# Altium integrated library Wuerth Elektronik Filter Inductor.IntLib: 70 symbols
Pins are listed as number, name and electrical type; pins without a type are passive.

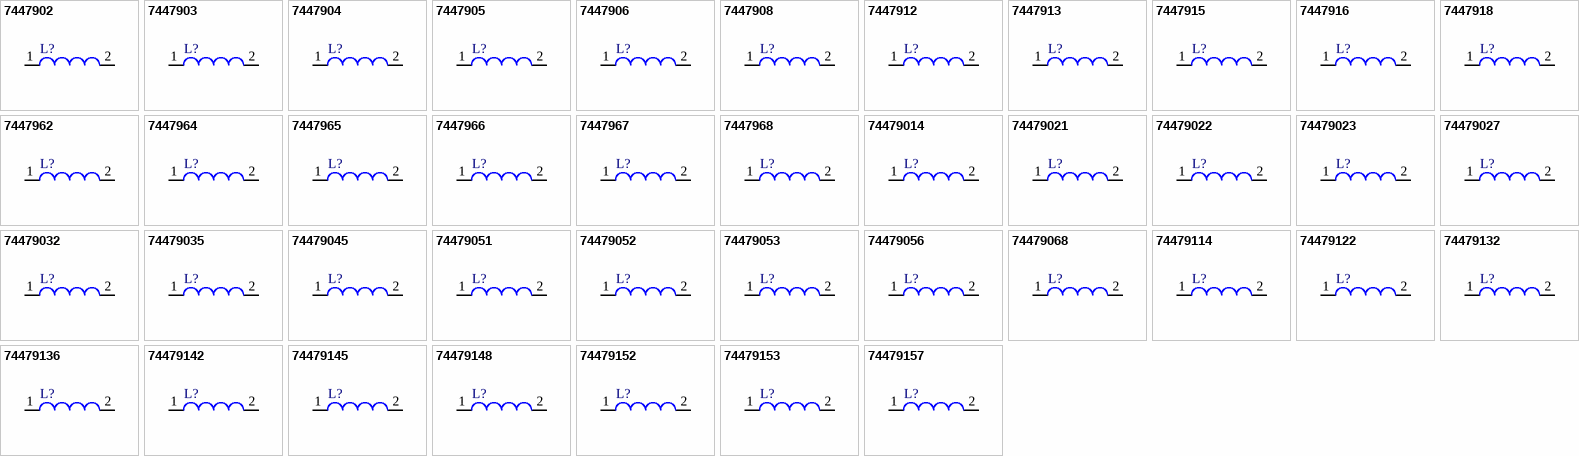
[diagram p0: symbols 7447902 to 74479157]

## 7447902
designator L?
SMD-Multilayer Inductor WE-MI, L = 0.10 µH; Inductance: 0.10 µH; DatasheetVersion: ver 4, Oct-2004; PackageVersion: 2005; PackageReference: SMD-0805; PackageDescription: Chip Inductor, 2-Leads, Body 2.0 x 1.2 mm; ComponentLink1Description: Manufacturer URL; ComponentLink1URL: http://www.we-online.com; ComponentLink2Description: Datasheet; ComponentLink2URL: http://www.we-online.de/katalog/media/pdf/7447902.pdf
footprint SMD-0805 (Chip Inductor, 2-Leads, Body 2.0x1.2x1.1 mm)
pins: 1, 2

## 7447903
designator L?
SMD-Multilayer Inductor WE-MI, L = 0.33 µH; Inductance: 0.33 µH; DatasheetVersion: ver 4, Oct-2004; PackageVersion: 2005; PackageReference: SMD-0805; PackageDescription: Chip Inductor, 2-Leads, Body 2.0 x 1.2 mm; ComponentLink1Description: Manufacturer URL; ComponentLink1URL: http://www.we-online.com; ComponentLink2Description: Datasheet; ComponentLink2URL: http://www.we-online.de/katalog/media/pdf/7447903.pdf
footprint SMD-0805 (Chip Inductor, 2-Leads, Body 2.0x1.2x1.1 mm)
pins: 1, 2

## 7447904
designator L?
SMD-Multilayer Inductor WE-MI, L = 0.68 µH; Inductance: 0.68 µH; DatasheetVersion: ver 5, Jun-2008; PackageVersion: 2005; PackageReference: SMD-0805; PackageDescription: Chip Inductor, 2-Leads, Body 2.0 x 1.2 mm; ComponentLink1Description: Manufacturer URL; ComponentLink1URL: http://www.we-online.com; ComponentLink2Description: Datasheet; ComponentLink2URL: http://www.we-online.de/katalog/media/pdf/7447904.pdf
footprint SMD-0805 (Chip Inductor, 2-Leads, Body 2.0x1.2x1.1 mm)
pins: 1, 2

## 7447905
designator L?
SMD-Multilayer Inductor WE-MI, L = 1.00 µH; Inductance: 1.00 µH; DatasheetVersion: ver 4, Oct-2004; PackageVersion: 2005; PackageReference: SMD-0805; PackageDescription: Chip Inductor, 2-Leads, Body 2.0 x 1.2 mm; ComponentLink1Description: Manufacturer URL; ComponentLink1URL: http://www.we-online.com; ComponentLink2Description: Datasheet; ComponentLink2URL: http://www.we-online.de/katalog/media/pdf/7447905.pdf
footprint SMD-0805 (Chip Inductor, 2-Leads, Body 2.0x1.2x1.1 mm)
pins: 1, 2

## 7447906
designator L?
SMD-Multilayer Inductor WE-MI, L = 4.70 µH; Inductance: 4.70 µH; DatasheetVersion: ver 4, Oct-2004; PackageVersion: 2005; PackageReference: SMD-0805; PackageDescription: Chip Inductor, 2-Leads, Body 2.0 x 1.2 mm; ComponentLink1Description: Manufacturer URL; ComponentLink1URL: http://www.we-online.com; ComponentLink2Description: Datasheet; ComponentLink2URL: http://www.we-online.de/katalog/media/pdf/7447906.pdf
footprint SMD-0805 (Chip Inductor, 2-Leads, Body 2.0x1.2x1.1 mm)
pins: 1, 2

## 7447908
designator L?
SMD-Multilayer Inductor WE-MI, L = 10.00 µH; DatasheetVersion: ver 4, Oct-2004; PackageVersion: 2005; PackageReference: SMD-0805; PackageDescription: Chip Inductor, 2-Leads, Body 2.0 x 1.2 mm; Inductance: 10.00 µH; ComponentLink1Description: Manufacturer URL; ComponentLink1URL: http://www.we-online.com; ComponentLink2Description: Datasheet; ComponentLink2URL: http://www.we-online.de/katalog/media/pdf/7447908.pdf
footprint SMD-0805 (Chip Inductor, 2-Leads, Body 2.0x1.2x1.1 mm)
pins: 1, 2

## 7447912
designator L?
SMD-Multilayer Inductor WE-MI, L = 0.10 µH; Inductance: 0.10 µH; DatasheetVersion: ver 5, Oct-2004; PackageVersion: 2007; PackageReference: SMD-1210; PackageDescription: Chip Inductor, 2-Leads, Body 3.2 x 2.5 mm; ComponentLink1Description: Manufacturer URL; ComponentLink1URL: http://www.we-online.com; ComponentLink2Description: Datasheet; ComponentLink2URL: http://www.we-online.de/katalog/media/pdf/7447912.pdf
footprint SMD-1210 (Chip Inductor, 2-Leads, Body 3.2x2.5x1.5 mm)
pins: 1, 2

## 7447913
designator L?
SMD-Multilayer Inductor WE-MI, L = 0.33 µH; Inductance: 0.33 µH; DatasheetVersion: ver 5, Oct-2004; PackageVersion: 2007; PackageReference: SMD-1210; PackageDescription: Chip Inductor, 2-Leads, Body 3.2 x 2.5 mm; ComponentLink1Description: Manufacturer URL; ComponentLink1URL: http://www.we-online.com; ComponentLink2Description: Datasheet; ComponentLink2URL: http://www.we-online.de/katalog/media/pdf/7447913.pdf
footprint SMD-1210 (Chip Inductor, 2-Leads, Body 3.2x2.5x1.5 mm)
pins: 1, 2

## 7447915
designator L?
SMD-Multilayer Inductor WE-MI, L = 1.00 µH; Inductance: 1.00 µH; DatasheetVersion: ver 5, Oct-2004; PackageVersion: 2007; PackageReference: SMD-1210; PackageDescription: Chip Inductor, 2-Leads, Body 3.2 x 2.5 mm; ComponentLink1Description: Manufacturer URL; ComponentLink1URL: http://www.we-online.com; ComponentLink2Description: Datasheet; ComponentLink2URL: http://www.we-online.de/katalog/media/pdf/7447915.pdf
footprint SMD-1210 (Chip Inductor, 2-Leads, Body 3.2x2.5x1.5 mm)
pins: 1, 2

## 7447916
designator L?
SMD-Multilayer Inductor WE-MI, L = 4.70 µH; Inductance: 4.70 µH; DatasheetVersion: ver 5, Oct-2004; PackageVersion: 2007; PackageReference: SMD-1210; PackageDescription: Chip Inductor, 2-Leads, Body 3.2 x 2.5 mm; ComponentLink1Description: Manufacturer URL; ComponentLink1URL: http://www.we-online.com; ComponentLink2Description: Datasheet; ComponentLink2URL: http://www.we-online.de/katalog/media/pdf/7447916.pdf
footprint SMD-1210 (Chip Inductor, 2-Leads, Body 3.2x2.5x1.5 mm)
pins: 1, 2

## 7447918
designator L?
SMD-Multilayer Inductor WE-MI, L = 10.00 µH; DatasheetVersion: ver 5, Oct-2004; PackageVersion: 2007; PackageReference: SMD-1210; PackageDescription: Chip Inductor, 2-Leads, Body 3.2 x 2.5 mm; Inductance: 10.00 µH; ComponentLink1Description: Manufacturer URL; ComponentLink1URL: http://www.we-online.com; ComponentLink2Description: Datasheet; ComponentLink2URL: http://www.we-online.de/katalog/media/pdf/7447918.pdf
footprint SMD-1210 (Chip Inductor, 2-Leads, Body 3.2x2.5x1.5 mm)
pins: 1, 2

## 7447962
designator L?
SMD-Multilayer Inductor WE-MI, L = 0.10µH; DatasheetVersion: ver 5, Oct-2004; PackageVersion: 2009; PackageReference: SMD-0603; PackageDescription: Chip Inductor, 2-Leads, Body 1.6 x 0.8 mm; Inductance: 0.10 µH; ComponentLink1Description: Manufacturer URL; ComponentLink1URL: http://www.we-online.com; ComponentLink2Description: Datasheet; ComponentLink2URL: http://www.we-online.de/katalog/media/pdf/7447962.pdf
footprint SMD-0603 (Chip Inductor, 2-Leads, Body 1.6x0.8x0.95 mm)
pins: 1, 2

## 7447964
designator L?
SMD-Multilayer Inductor WE-MI, L = 0.68 µH; Inductance: 0.68 µH; DatasheetVersion: ver 1, Mar-2009; PackageVersion: 2009; PackageReference: SMD-0603; PackageDescription: Chip Inductor, 2-Leads, Body 1.6 x 0.8 mm; ComponentLink1Description: Manufacturer URL; ComponentLink1URL: http://www.we-online.com; ComponentLink2Description: Datasheet; ComponentLink2URL: http://www.we-online.de/katalog/media/pdf/7447964.pdf
footprint SMD-0603 (Chip Inductor, 2-Leads, Body 1.6x0.8x0.95 mm)
pins: 1, 2

## 7447965
designator L?
SMD-Multilayer Inductor WE-MI, L = 1.00 µH; Inductance: 1.00 µH; DatasheetVersion: ver 5, Oct-2004; PackageVersion: 2009; PackageReference: SMD-0603; PackageDescription: Chip Inductor, 2-Leads, Body 1.6 x 0.8 mm; ComponentLink1Description: Manufacturer URL; ComponentLink1URL: http://www.we-online.com; ComponentLink2Description: Datasheet; ComponentLink2URL: http://www.we-online.de/katalog/media/pdf/7447965.pdf
footprint SMD-0603 (Chip Inductor, 2-Leads, Body 1.6x0.8x0.95 mm)
pins: 1, 2

## 7447966
designator L?
SMD-Multilayer Inductor WE-MI, L = 4.70 µH; Inductance: 4.70 µH; DatasheetVersion: ver 5, Oct-2004; PackageVersion: 2009; PackageReference: SMD-0603; PackageDescription: Chip Inductor, 2-Leads, Body 1.6 x 0.8 mm; ComponentLink1Description: Manufacturer URL; ComponentLink1URL: http://www.we-online.com; ComponentLink2Description: Datasheet; ComponentLink2URL: http://www.we-online.de/katalog/media/pdf/7447966.pdf
footprint SMD-0603 (Chip Inductor, 2-Leads, Body 1.6x0.8x0.95 mm)
pins: 1, 2

## 7447967
designator L?
SMD-Multilayer Inductor WE-MI, L = 8.20 µH; Inductance: 8.20 µH; DatasheetVersion: ver 5, Oct-2004; PackageVersion: 2009; PackageReference: SMD-0603; PackageDescription: Chip Inductor, 2-Leads, Body 1.6 x 0.8 mm; ComponentLink1Description: Manufacturer URL; ComponentLink1URL: http://www.we-online.com; ComponentLink2Description: Datasheet; ComponentLink2URL: http://www.we-online.de/katalog/media/pdf/7447967.pdf
footprint SMD-0603 (Chip Inductor, 2-Leads, Body 1.6x0.8x0.95 mm)
pins: 1, 2

## 7447968
designator L?
SMD-Multilayer Inductor WE-MI, L = 10.00 µH; DatasheetVersion: ver 5, Oct-2004; PackageVersion: 2009; PackageReference: SMD-0603; PackageDescription: Chip Inductor, 2-Leads, Body 1.6 x 0.8 mm; Inductance: 10.00 µH; ComponentLink1Description: Manufacturer URL; ComponentLink1URL: http://www.we-online.com; ComponentLink2Description: Datasheet; ComponentLink2URL: http://www.we-online.de/katalog/media/pdf/7447968.pdf
footprint SMD-0603 (Chip Inductor, 2-Leads, Body 1.6x0.8x0.95 mm)
pins: 1, 2

## 74479014
designator L?
SMD-Multilayer Inductor WE-MI, L = 0.047 µH; DatasheetVersion: ver 4, Oct-2004; PackageVersion: 2005; PackageReference: SMD-0805; PackageDescription: Chip Inductor, 2-Leads, Body 2.0 x 1.2 mm; Inductance: 0.047 µH; ComponentLink1Description: Manufacturer URL; ComponentLink1URL: http://www.we-online.com; ComponentLink2Description: Datasheet; ComponentLink2URL: http://www.we-online.de/katalog/media/pdf/74479014.pdf
footprint SMD-0805 (Chip Inductor, 2-Leads, Body 2.0x1.2x1.1 mm)
pins: 1, 2

## 74479021
designator L?
SMD-Multilayer Inductor WE-MI, L = 0.10 µH; Inductance: 0.10 µH; DatasheetVersion: ver 4, Oct-2004; PackageVersion: 2005; PackageReference: SMD-0805; PackageDescription: Chip Inductor, 2-Leads, Body 2.0 x 1.2 mm; ComponentLink1Description: Manufacturer URL; ComponentLink1URL: http://www.we-online.com; ComponentLink2Description: Datasheet; ComponentLink2URL: http://www.we-online.de/katalog/media/pdf/74479021.pdf
footprint SMD-0805 (Chip Inductor, 2-Leads, Body 2.0x1.2x1.1 mm)
pins: 1, 2

## 74479022
designator L?
SMD-Multilayer Inductor WE-MI, L = 0.15 µH; Inductance: 0.15 µH; DatasheetVersion: ver 4, Oct-2004; PackageVersion: 2005; PackageReference: SMD-0805; PackageDescription: Chip Inductor, 2-Leads, Body 2.0 x 1.2 mm; ComponentLink1Description: Manufacturer URL; ComponentLink1URL: http://www.we-online.com; ComponentLink2Description: Datasheet; ComponentLink2URL: http://www.we-online.de/katalog/media/pdf/74479022.pdf
footprint SMD-0805 (Chip Inductor, 2-Leads, Body 2.0x1.2x1.1 mm)
pins: 1, 2

## 74479023
designator L?
SMD-Multilayer Inductor WE-MI, L = 0.22 µH; Inductance: 0.22 µH; DatasheetVersion: ver 4, Oct-2004; PackageVersion: 2005; PackageReference: SMD-0805; PackageDescription: Chip Inductor, 2-Leads, Body 2.0 x 1.2 mm; ComponentLink1Description: Manufacturer URL; ComponentLink1URL: http://www.we-online.com; ComponentLink2Description: Datasheet; ComponentLink2URL: http://www.we-online.de/katalog/media/pdf/74479023.pdf
footprint SMD-0805 (Chip Inductor, 2-Leads, Body 2.0x1.2x1.1 mm)
pins: 1, 2

## 74479027
designator L?
SMD-Multilayer Inductor WE-MI, L = 0.27 µH; Inductance: 0.27 µH; DatasheetVersion: ver 4, Oct-2004; PackageVersion: 2005; PackageReference: SMD-0805; PackageDescription: Chip Inductor, 2-Leads, Body 2.0 x 1.2 mm; ComponentLink1Description: Manufacturer URL; ComponentLink1URL: http://www.we-online.com; ComponentLink2Description: Datasheet; ComponentLink2URL: http://www.we-online.de/katalog/media/pdf/74479027.pdf
footprint SMD-0805 (Chip Inductor, 2-Leads, Body 2.0x1.2x1.1 mm)
pins: 1, 2

## 74479032
designator L?
SMD-Multilayer Inductor WE-MI, L = 0.47 µH; Inductance: 0.47 µH; DatasheetVersion: ver 4, Oct-2004; PackageVersion: 2005; PackageReference: SMD-0805; PackageDescription: Chip Inductor, 2-Leads, Body 2.0 x 1.2 mm; ComponentLink1Description: Manufacturer URL; ComponentLink1URL: http://www.we-online.com; ComponentLink2Description: Datasheet; ComponentLink2URL: http://www.we-online.de/katalog/media/pdf/74479032.pdf
footprint SMD-0805 (Chip Inductor, 2-Leads, Body 2.0x1.2x1.1 mm)
pins: 1, 2

## 74479035
designator L?
SMD-Multilayer Inductor WE-MI, L = 0.56 µH; Inductance: 0.56 µH; DatasheetVersion: ver 1, Nov-2006; PackageVersion: 2005; PackageReference: SMD-0805; PackageDescription: Chip Inductor, 2-Leads, Body 2.0 x 1.2 mm; ComponentLink1Description: Manufacturer URL; ComponentLink1URL: http://www.we-online.com; ComponentLink2Description: Datasheet; ComponentLink2URL: http://www.we-online.de/katalog/media/pdf/74479035.pdf
footprint SMD-0805 (Chip Inductor, 2-Leads, Body 2.0x1.2x1.1 mm)
pins: 1, 2

## 74479045
designator L?
SMD-Multilayer Inductor WE-MI, L = 0.82 µH; Inductance: 0.82 µH; DatasheetVersion: ver 5, Jun-2008; PackageVersion: 2005; PackageReference: SMD-0805; PackageDescription: Chip Inductor, 2-Leads, Body 2.0 x 1.2 mm; ComponentLink1Description: Manufacturer URL; ComponentLink1URL: http://www.we-online.com; ComponentLink2Description: Datasheet; ComponentLink2URL: http://www.we-online.de/katalog/media/pdf/74479045.pdf
footprint SMD-0805 (Chip Inductor, 2-Leads, Body 2.0x1.2x1.1 mm)
pins: 1, 2

## 74479051
designator L?
SMD-Multilayer Inductor WE-MI, L = 1.80 µH; Inductance: 1.80 µH; DatasheetVersion: ver 4, Oct-2004; PackageVersion: 2005; PackageReference: SMD-0805; PackageDescription: Chip Inductor, 2-Leads, Body 2.0 x 1.2 mm; ComponentLink1Description: Manufacturer URL; ComponentLink1URL: http://www.we-online.com; ComponentLink2Description: Datasheet; ComponentLink2URL: http://www.we-online.de/katalog/media/pdf/74479051.pdf
footprint SMD-0805 (Chip Inductor, 2-Leads, Body 2.0x1.2x1.1 mm)
pins: 1, 2

## 74479052
designator L?
SMD-Multilayer Inductor WE-MI, L = 2.20 µH; Inductance: 2.20 µH; DatasheetVersion: ver 4, Oct-2004; PackageVersion: 2005; PackageReference: SMD-0805; PackageDescription: Chip Inductor, 2-Leads, Body 2.0 x 1.2 mm; ComponentLink1Description: Manufacturer URL; ComponentLink1URL: http://www.we-online.com; ComponentLink2Description: Datasheet; ComponentLink2URL: http://www.we-online.de/katalog/media/pdf/74479052.pdf
footprint SMD-0805 (Chip Inductor, 2-Leads, Body 2.0x1.2x1.1 mm)
pins: 1, 2

## 74479053
designator L?
SMD-Multilayer Inductor WE-MI, L = 3.30 µH; Inductance: 3.30 µH; DatasheetVersion: ver 4, Oct-2004; PackageVersion: 2005; PackageReference: SMD-0805; PackageDescription: Chip Inductor, 2-Leads, Body 2.0 x 1.2 mm; ComponentLink1Description: Manufacturer URL; ComponentLink1URL: http://www.we-online.com; ComponentLink2Description: Datasheet; ComponentLink2URL: http://www.we-online.de/katalog/media/pdf/74479053.pdf
footprint SMD-0805 (Chip Inductor, 2-Leads, Body 2.0x1.2x1.1 mm)
pins: 1, 2

## 74479056
designator L?
SMD-Multilayer Inductor WE-MI, L = 5.60 µH; Inductance: 5.60 µH; DatasheetVersion: ver 4, Oct-2004; PackageVersion: 2005; PackageReference: SMD-0805; PackageDescription: Chip Inductor, 2-Leads, Body 2.0 x 1.2 mm; ComponentLink1Description: Manufacturer URL; ComponentLink1URL: http://www.we-online.com; ComponentLink2Description: Datasheet; ComponentLink2URL: http://www.we-online.de/katalog/media/pdf/74479056.pdf
footprint SMD-0805 (Chip Inductor, 2-Leads, Body 2.0x1.2x1.1 mm)
pins: 1, 2

## 74479068
designator L?
SMD-Multilayer Inductor WE-MI, L = 6.80 µH; Inductance: 6.80 µH; DatasheetVersion: ver 4, Oct-2004; PackageVersion: 2005; PackageReference: SMD-0805; PackageDescription: Chip Inductor, 2-Leads, Body 2.0 x 1.2 mm; ComponentLink1Description: Manufacturer URL; ComponentLink1URL: http://www.we-online.com; ComponentLink2Description: Datasheet; ComponentLink2URL: http://www.we-online.de/katalog/media/pdf/74479068.pdf
footprint SMD-0805 (Chip Inductor, 2-Leads, Body 2.0x1.2x1.1 mm)
pins: 1, 2

## 74479114
designator L?
SMD-Multilayer Inductor WE-MI, L = 0.047 µH; DatasheetVersion: ver 5, Oct-2004; PackageVersion: 2007; PackageReference: SMD-1210; PackageDescription: Chip Inductor, 2-Leads, Body 3.2 x 2.5 mm; Inductance: 0.047 µH; ComponentLink1Description: Manufacturer URL; ComponentLink1URL: http://www.we-online.com; ComponentLink2Description: Datasheet; ComponentLink2URL: http://www.we-online.de/katalog/media/pdf/74479114.pdf
footprint SMD-1210 (Chip Inductor, 2-Leads, Body 3.2x2.5x1.5 mm)
pins: 1, 2

## 74479122
designator L?
SMD-Multilayer Inductor WE-MI, L = 0.15 µH; Inductance: 0.15 µH; DatasheetVersion: ver 5, Oct-2004; PackageVersion: 2007; PackageReference: SMD-1210; PackageDescription: Chip Inductor, 2-Leads, Body 3.2 x 2.5 mm; ComponentLink1Description: Manufacturer URL; ComponentLink1URL: http://www.we-online.com; ComponentLink2Description: Datasheet; ComponentLink2URL: http://www.we-online.de/katalog/media/pdf/74479122.pdf
footprint SMD-1210 (Chip Inductor, 2-Leads, Body 3.2x2.5x1.5 mm)
pins: 1, 2

## 74479132
designator L?
SMD-Multilayer Inductor WE-MI, L = 0.47 µH; Inductance: 0.47 µH; DatasheetVersion: ver 5, Oct-2004; PackageVersion: 2007; PackageReference: SMD-1210; PackageDescription: Chip Inductor, 2-Leads, Body 3.2 x 2.5 mm; ComponentLink1Description: Manufacturer URL; ComponentLink1URL: http://www.we-online.com; ComponentLink2Description: Datasheet; ComponentLink2URL: http://www.we-online.de/katalog/media/pdf/74479132.pdf
footprint SMD-1210 (Chip Inductor, 2-Leads, Body 3.2x2.5x1.5 mm)
pins: 1, 2

## 74479136
designator L?
SMD-Multilayer Inductor WE-MI, L = 0.68 µH; Inductance: 0.68 µH; DatasheetVersion: ver 5, Oct-2004; PackageVersion: 2007; PackageReference: SMD-1210; PackageDescription: Chip Inductor, 2-Leads, Body 3.2 x 2.5 mm; ComponentLink1Description: Manufacturer URL; ComponentLink1URL: http://www.we-online.com; ComponentLink2Description: Datasheet; ComponentLink2URL: http://www.we-online.de/katalog/media/pdf/74479136.pdf
footprint SMD-1210 (Chip Inductor, 2-Leads, Body 3.2x2.5x1.5 mm)
pins: 1, 2

## 74479142
designator L?
SMD-Multilayer Inductor WE-MI, L = 1.20 µH; Inductance: 1.20 µH; DatasheetVersion: ver 5, Oct-2004; PackageVersion: 2007; PackageReference: SMD-1210; PackageDescription: Chip Inductor, 2-Leads, Body 3.2 x 2.5 mm; ComponentLink1Description: Manufacturer URL; ComponentLink1URL: http://www.we-online.com; ComponentLink2Description: Datasheet; ComponentLink2URL: http://www.we-online.de/katalog/media/pdf/74479142.pdf
footprint SMD-1210 (Chip Inductor, 2-Leads, Body 3.2x2.5x1.5 mm)
pins: 1, 2

## 74479145
designator L?
SMD-Multilayer Inductor WE-MI, L = 1.50 µH; Inductance: 1.50 µH; DatasheetVersion: ver 5, Oct-2004; PackageVersion: 2007; PackageReference: SMD-1210; PackageDescription: Chip Inductor, 2-Leads, Body 3.2 x 2.5 mm; ComponentLink1Description: Manufacturer URL; ComponentLink1URL: http://www.we-online.com; ComponentLink2Description: Datasheet; ComponentLink2URL: http://www.we-online.de/katalog/media/pdf/74479145.pdf
footprint SMD-1210 (Chip Inductor, 2-Leads, Body 3.2x2.5x1.5 mm)
pins: 1, 2

## 74479148
designator L?
SMD-Multilayer Inductor WE-MI, L = 1.80 µH; Inductance: 1.80 µH; DatasheetVersion: ver 5, Oct-2004; PackageVersion: 2007; PackageReference: SMD-1210; PackageDescription: Chip Inductor, 2-Leads, Body 3.2 x 2.5 mm; ComponentLink1Description: Manufacturer URL; ComponentLink1URL: http://www.we-online.com; ComponentLink2Description: Datasheet; ComponentLink2URL: http://www.we-online.de/katalog/media/pdf/74479148.pdf
footprint SMD-1210 (Chip Inductor, 2-Leads, Body 3.2x2.5x1.5 mm)
pins: 1, 2

## 74479152
designator L?
SMD-Multilayer Inductor WE-MI, L = 2.20 µH; Inductance: 2.20 µH; DatasheetVersion: ver 5, Oct-2004; PackageVersion: 2007; PackageReference: SMD-1210; PackageDescription: Chip Inductor, 2-Leads, Body 3.2 x 2.5 mm; ComponentLink1Description: Manufacturer URL; ComponentLink1URL: http://www.we-online.com; ComponentLink2Description: Datasheet; ComponentLink2URL: http://www.we-online.de/katalog/media/pdf/74479152.pdf
footprint SMD-1210 (Chip Inductor, 2-Leads, Body 3.2x2.5x1.5 mm)
pins: 1, 2

## 74479153
designator L?
SMD-Multilayer Inductor WE-MI, L = 3.30 µH; Inductance: 3.30 µH; DatasheetVersion: ver 5, Oct-2004; PackageVersion: 2007; PackageReference: SMD-1210; PackageDescription: Chip Inductor, 2-Leads, Body 3.2 x 2.5 mm; ComponentLink1Description: Manufacturer URL; ComponentLink1URL: http://www.we-online.com; ComponentLink2Description: Datasheet; ComponentLink2URL: http://www.we-online.de/katalog/media/pdf/74479153.pdf
footprint SMD-1210 (Chip Inductor, 2-Leads, Body 3.2x2.5x1.5 mm)
pins: 1, 2

## 74479157
designator L?
SMD-Multilayer Inductor WE-MI, L = 2.70 µH; Inductance: 2.70 µH; DatasheetVersion: ver 5, Oct-2004; PackageVersion: 2007; PackageReference: SMD-1210; PackageDescription: Chip Inductor, 2-Leads, Body 3.2 x 2.5 mm; ComponentLink1Description: Manufacturer URL; ComponentLink1URL: http://www.we-online.com; ComponentLink2Description: Datasheet; ComponentLink2URL: http://www.we-online.de/katalog/media/pdf/74479157.pdf
footprint SMD-1210 (Chip Inductor, 2-Leads, Body 3.2x2.5x1.5 mm)
pins: 1, 2

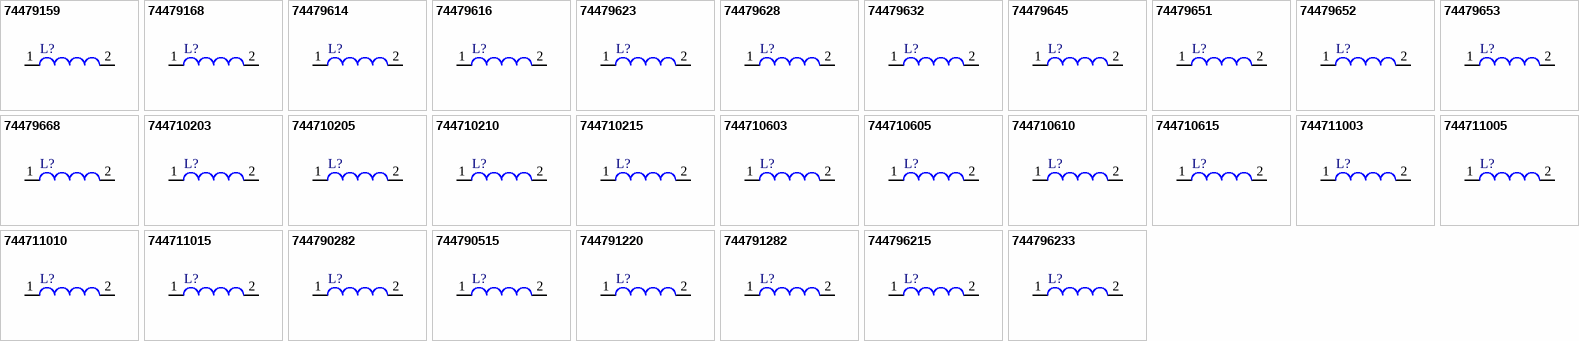
[diagram p1: symbols 74479159 to 744796233]

## 74479159
designator L?
SMD-Multilayer Inductor WE-MI, L = 3.90 µH; Inductance: 3.90 µH; DatasheetVersion: ver 5, Oct-2004; PackageVersion: 2007; PackageReference: SMD-1210; PackageDescription: Chip Inductor, 2-Leads, Body 3.2 x 2.5 mm; ComponentLink1Description: Manufacturer URL; ComponentLink1URL: http://www.we-online.com; ComponentLink2Description: Datasheet; ComponentLink2URL: http://www.we-online.de/katalog/media/pdf/74479159.pdf
footprint SMD-1210 (Chip Inductor, 2-Leads, Body 3.2x2.5x1.5 mm)
pins: 1, 2

## 74479168
designator L?
SMD-Multilayer Inductor WE-MI, L = 6.80 µH; Inductance: 6.80 µH; DatasheetVersion: ver 5, Oct-2004; PackageVersion: 2007; PackageReference: SMD-1210; PackageDescription: Chip Inductor, 2-Leads, Body 3.2 x 2.5 mm; ComponentLink1Description: Manufacturer URL; ComponentLink1URL: http://www.we-online.com; ComponentLink2Description: Datasheet; ComponentLink2URL: http://www.we-online.de/katalog/media/pdf/74479168.pdf
footprint SMD-1210 (Chip Inductor, 2-Leads, Body 3.2x2.5x1.5 mm)
pins: 1, 2

## 74479614
designator L?
SMD-Multilayer Inductor WE-MI, L = 0.047 µH; DatasheetVersion: ver 5, Oct-2004; PackageVersion: 2009; PackageReference: SMD-0603; PackageDescription: Chip Inductor, 2-Leads, Body 1.6 x 0.8 mm; Inductance: 0.047 µH; ComponentLink1Description: Manufacturer URL; ComponentLink1URL: http://www.we-online.com; ComponentLink2Description: Datasheet; ComponentLink2URL: http://www.we-online.de/katalog/media/pdf/74479614.pdf
footprint SMD-0603 (Chip Inductor, 2-Leads, Body 1.6x0.8x0.95 mm)
pins: 1, 2

## 74479616
designator L?
SMD-Multilayer Inductor WE-MI, L = 0.068 µH; DatasheetVersion: ver 5, Oct-2004; PackageVersion: 2009; PackageReference: SMD-0603; PackageDescription: Chip Inductor, 2-Leads, Body 1.6 x 0.8 mm; Inductance: 0.068 µH; ComponentLink1Description: Manufacturer URL; ComponentLink1URL: http://www.we-online.com; ComponentLink2Description: Datasheet; ComponentLink2URL: http://www.we-online.de/katalog/media/pdf/74479616.pdf
footprint SMD-0603 (Chip Inductor, 2-Leads, Body 1.6x0.8x0.95 mm)
pins: 1, 2

## 74479623
designator L?
SMD-Multilayer Inductor WE-MI, L = 0.22 µH; Inductance: 0.22 µH; DatasheetVersion: ver 5, Oct-2004; PackageVersion: 2009; PackageReference: SMD-0603; PackageDescription: Chip Inductor, 2-Leads, Body 1.6 x 0.8 mm; ComponentLink1Description: Manufacturer URL; ComponentLink1URL: http://www.we-online.com; ComponentLink2Description: Datasheet; ComponentLink2URL: http://www.we-online.de/katalog/media/pdf/74479623.pdf
footprint SMD-0603 (Chip Inductor, 2-Leads, Body 1.6x0.8x0.95 mm)
pins: 1, 2

## 74479628
designator L?
SMD-Multilayer Inductor WE-MI, L = 0.82 µH; Inductance: 0.82 µH; DatasheetVersion: ver 5, Oct-2004; PackageVersion: 2009; PackageReference: SMD-0603; PackageDescription: Chip Inductor, 2-Leads, Body 1.6 x 0.8 mm; ComponentLink1Description: Manufacturer URL; ComponentLink1URL: http://www.we-online.com; ComponentLink2Description: Datasheet; ComponentLink2URL: http://www.we-online.de/katalog/media/pdf/74479628.pdf
footprint SMD-0603 (Chip Inductor, 2-Leads, Body 1.6x0.8x0.95 mm)
pins: 1, 2

## 74479632
designator L?
SMD-Multilayer Inductor WE-MI, L = 0.47 µH; Inductance: 0.47µH; DatasheetVersion: ver 5, Oct-2004; PackageVersion: 2009; PackageReference: SMD-0603; PackageDescription: Chip Inductor, 2-Leads, Body 1.6 x 0.8 mm; ComponentLink1Description: Manufacturer URL; ComponentLink1URL: http://www.we-online.com; ComponentLink2Description: Datasheet; ComponentLink2URL: http://www.we-online.de/katalog/media/pdf/74479632.pdf
footprint SMD-0603 (Chip Inductor, 2-Leads, Body 1.6x0.8x0.95 mm)
pins: 1, 2

## 74479645
designator L?
SMD-Multilayer Inductor WE-MI, L = 0.56 µH; Inductance: 0.56 µH; DatasheetVersion: ver 5, Oct-2004; PackageVersion: 2009; PackageReference: SMD-0603; PackageDescription: Chip Inductor, 2-Leads, Body 1.6 x 0.8 mm; ComponentLink1Description: Manufacturer URL; ComponentLink1URL: http://www.we-online.com; ComponentLink2Description: Datasheet; ComponentLink2URL: http://www.we-online.de/katalog/media/pdf/74479645.pdf
footprint SMD-0603 (Chip Inductor, 2-Leads, Body 1.6x0.8x0.95 mm)
pins: 1, 2

## 74479651
designator L?
SMD-Multilayer Inductor WE-MI, L = 1.80 µH; Inductance: 1.80 µH; DatasheetVersion: ver 5, Oct-2004; PackageVersion: 2009; PackageReference: SMD-0603; PackageDescription: Chip Inductor, 2-Leads, Body 1.6 x 0.8 mm; ComponentLink1Description: Manufacturer URL; ComponentLink1URL: http://www.we-online.com; ComponentLink2Description: Datasheet; ComponentLink2URL: http://www.we-online.de/katalog/media/pdf/74479651.pdf
footprint SMD-0603 (Chip Inductor, 2-Leads, Body 1.6x0.8x0.95 mm)
pins: 1, 2

## 74479652
designator L?
SMD-Multilayer Inductor WE-MI, L = 2.20 µH; Inductance: 2.20 µH; DatasheetVersion: ver 5, Oct-2004; PackageVersion: 2009; PackageReference: SMD-0603; PackageDescription: Chip Inductor, 2-Leads, Body 1.6 x 0.8 mm; ComponentLink1Description: Manufacturer URL; ComponentLink1URL: http://www.we-online.com; ComponentLink2Description: Datasheet; ComponentLink2URL: http://www.we-online.de/katalog/media/pdf/74479652.pdf
footprint SMD-0603 (Chip Inductor, 2-Leads, Body 1.6x0.8x0.95 mm)
pins: 1, 2

## 74479653
designator L?
SMD-Multilayer Inductor WE-MI, L = 3.30 µH; Inductance: 3.30 µH; DatasheetVersion: ver 5, Oct-2004; PackageVersion: 2009; PackageReference: SMD-0603; PackageDescription: Chip Inductor, 2-Leads, Body 1.6 x 0.8 mm; ComponentLink1Description: Manufacturer URL; ComponentLink1URL: http://www.we-online.com; ComponentLink2Description: Datasheet; ComponentLink2URL: http://www.we-online.de/katalog/media/pdf/74479653.pdf
footprint SMD-0603 (Chip Inductor, 2-Leads, Body 1.6x0.8x0.95 mm)
pins: 1, 2

## 74479668
designator L?
SMD-Multilayer Inductor WE-MI, L = 6.80 µH; Inductance: 6.80 µH; DatasheetVersion: ver 5, Oct-2004; PackageVersion: 2009; PackageReference: SMD-0603; PackageDescription: Chip Inductor, 2-Leads, Body 1.6 x 0.8 mm; ComponentLink1Description: Manufacturer URL; ComponentLink1URL: http://www.we-online.com; ComponentLink2Description: Datasheet; ComponentLink2URL: http://www.we-online.de/katalog/media/pdf/74479668.pdf
footprint SMD-0603 (Chip Inductor, 2-Leads, Body 1.6x0.8x0.95 mm)
pins: 1, 2

## 744710203
designator L?
Rod Core  Inductor High Current WE-SD, L = 2.00 µH; Inductance: 2.00 µH; DatasheetVersion: Nov-2006; PackageVersion: 2006; PackageReference: WE-SD-744710203; PackageDescription: THT Inductor, 2-Leads, Body 12.3 x 3.2 mm; ComponentLink1Description: Manufacturer URL; ComponentLink1URL: http://www.we-online.com; ComponentLink2Description: Datasheet; ComponentLink2URL: http://www.we-online.de/katalog/media/pdf/744710203.pdf
footprint WE-SD-744710203 (THT Inductor, 2-Leads, Body 12.3x3.2x3.2 mm)
pins: 1, 2

## 744710205
designator L?
Rod Core  Inductor High Current WE-SD, L = 2.00 µH; Inductance: 2.00 µH; DatasheetVersion: Nov-2006; PackageVersion: 2006; PackageReference: WE-SD-744710205; PackageDescription: THT Inductor, 2-Leads, Body 14.0 x 5.9 mm; ComponentLink1Description: Manufacturer URL; ComponentLink1URL: http://www.we-online.com; ComponentLink2Description: Datasheet; ComponentLink2URL: http://www.we-online.de/katalog/media/pdf/744710205.pdf
footprint WE-SD-744710205 (THT Inductor, 2-Leads, Body 14.0x5.9x5.9 mm)
pins: 1, 2

## 744710210
designator L?
Rod Core  Inductor High Current WE-SD, L = 2.00 µH; Inductance: 2.00 µH; DatasheetVersion: Nov-2006; PackageVersion: 2006; PackageReference: WE-SD-744710210; PackageDescription: THT Inductor, 2-Leads, Body 15.4 x 7.6 mm; ComponentLink1Description: Manufacturer URL; ComponentLink1URL: http://www.we-online.com; ComponentLink2Description: Datasheet; ComponentLink2URL: http://www.we-online.de/katalog/media/pdf/744710210.pdf
footprint WE-SD-744710210 (THT Inductor, 2-Leads, Body 15.4x7.6x7.6 mm)
pins: 1, 2

## 744710215
designator L?
Rod Core  Inductor High Current WE-SD, L = 2.00 µH; Inductance: 2.00 µH; DatasheetVersion: Jun-2009; PackageVersion: 2009; PackageReference: WE-SD-744710215; PackageDescription: THT Inductor, 2-Leads, Body 25.7 x 10.0 mm; ComponentLink1Description: Manufacturer URL; ComponentLink1URL: http://www.we-online.com; ComponentLink2Description: Datasheet; ComponentLink2URL: http://www.we-online.de/katalog/media/pdf/744710215.pdf
footprint WE-SD-744710215 (THT Inductor, 2-Leads, Body 25.7x10.0x10.0 mm)
pins: 1, 2

## 744710603
designator L?
Rod Core Inductor High Current WE-SD, L = 6.00 µH; Inductance: 6.00 µH; DatasheetVersion: Nov-2006; PackageVersion: 2006; PackageReference: WE-SD-744710603; PackageDescription: THT Inductor, 2-Leads, Body 15.4 x 4.2 mm; ComponentLink1Description: Manufacturer URL; ComponentLink1URL: http://www.we-online.com; ComponentLink2Description: Datasheet; ComponentLink2URL: http://www.we-online.de/katalog/media/pdf/744710603.pdf
footprint WE-SD-744710603 (THT Inductor, 2-Leads, Body 15.4x4.2x4.2 mm)
pins: 1, 2

## 744710605
designator L?
Rod Core  Inductor High Current WE-SD, L = 6.00 µH; Inductance: 6.00 µH; DatasheetVersion: Nov-2006; PackageVersion: 2006; PackageReference: WE-SD-744710605; PackageDescription: THT Inductor, 2-Leads, Body 20.5 x 6.9 mm; ComponentLink1Description: Manufacturer URL; ComponentLink1URL: http://www.we-online.com; ComponentLink2Description: Datasheet; ComponentLink2URL: http://www.we-online.de/katalog/media/pdf/744710605.pdf
footprint WE-SD-744710605 (THT Inductor, 2-Leads, Body 20.5x6.9x6.9 mm)
pins: 1, 2

## 744710610
designator L?
Rod Core  Inductor High Current WE-SD, L = 6.00 µH; Inductance: 6.00 µH; DatasheetVersion: Nov-2006; PackageVersion: 2006; PackageReference: WE-SD-744710610; PackageDescription: THT Inductor, 2-Leads, Body 25.7 x 8.6 mm; ComponentLink1Description: Manufacturer URL; ComponentLink1URL: http://www.we-online.com; ComponentLink2Description: Datasheet; ComponentLink2URL: http://www.we-online.de/katalog/media/pdf/744710610.pdf
footprint WE-SD-744710610 (THT Inductor, 2-Leads, Body 25.7x8.6x8.6 mm)
pins: 1, 2

## 744710615
designator L?
Rod Core Inductor High Current WE-SD, L = 6.00 µH; Inductance: 6.00 µH; DatasheetVersion: Nov-2006; PackageVersion: 2006; PackageReference: WE-SD-744710615; PackageDescription: THT Inductor, 2-Leads, Body 30.0 x 14.0 mm; ComponentLink1Description: Manufacturer URL; ComponentLink1URL: http://www.we-online.com; ComponentLink2Description: Datasheet; ComponentLink2URL: http://www.we-online.de/katalog/media/pdf/744710615.pdf
footprint WE-SD-744710615 (THT Inductor, 2-Leads, Body 30.0x14.0x14.0 mm)
pins: 1, 2

## 744711003
designator L?
Rod Core Inductor High Current WE-SD, L = 10.0 µH; Inductance: 10.0 µH; DatasheetVersion: Nov-2006; PackageVersion: 2006; PackageReference: WE-SD-744711003; PackageDescription: THT Inductor, 2-Leads, Body 18.5 x 5.2 mm; ComponentLink1Description: Manufacturer URL; ComponentLink1URL: http://www.we-online.com; ComponentLink2Description: Datasheet; ComponentLink2URL: http://www.we-online.de/katalog/media/pdf/744711003.pdf
footprint WE-SD-744711003 (THT Inductor, 2-Leads, Body 18.5x5.2x5.2 mm)
pins: 1, 2

## 744711005
designator L?
Rod Core Inductor High Current WE-SD, L = 10.0 µH; Inductance: 10.0 µH; DatasheetVersion: Nov-2006; PackageVersion: 2006; PackageReference: WE-SD-744711005; PackageDescription: THT Inductor, 2-Leads, Body 22.5 x 6.9 mm; ComponentLink1Description: Manufacturer URL; ComponentLink1URL: http://www.we-online.com; ComponentLink2Description: Datasheet; ComponentLink2URL: http://www.we-online.de/katalog/media/pdf/744711005.pdf
footprint WE-SD-744711005 (THT Inductor, 2-Leads, Body 22.5x6.9x6.9 mm)
pins: 1, 2

## 744711010
designator L?
Rod Core Inductor High Current WE-SD, L = 10.0 µH; Inductance: 10.0 µH; DatasheetVersion: Nov-2006; PackageVersion: 2006; PackageReference: WE-SD-744711010; PackageDescription: THT Inductor, 2-Leads, Body 30.9 x 8.6 mm; ComponentLink1Description: Manufacturer URL; ComponentLink1URL: http://www.we-online.com; ComponentLink2Description: Datasheet; ComponentLink2URL: http://www.we-online.de/katalog/media/pdf/744711010.pdf
footprint WE-SD-744711010 (THT Inductor, 2-Leads, Body 30.9x8.6x8.6 mm)
pins: 1, 2

## 744711015
designator L?
Rod Core Inductor High Current  WE-SD, L = 10.0 µH; Inductance: 10.0 µH; DatasheetVersion: Nov-2006; PackageVersion: 2006; PackageReference: WE-SD-744711015; PackageDescription: THT Inductor, 2-Leads, Body 30.8 x 16.0 mm; ComponentLink1Description: Manufacturer URL; ComponentLink1URL: http://www.we-online.com; ComponentLink2Description: Datasheet; ComponentLink2URL: http://www.we-online.de/katalog/media/pdf/744711015.pdf
footprint WE-SD-744711015 (THT Inductor, 2-Leads, Body 30.8x16.0x16.0 mm)
pins: 1, 2

## 744790282
designator L?
SMD-Multilayer Inductor WE-MI, L = 8.20 µH; Inductance: 8.20 µH; DatasheetVersion: ver 1, May-2007; PackageVersion: 2005; PackageReference: SMD-0805; PackageDescription: Chip Inductor, 2-Leads, Body 2.0 x 1.2 mm; ComponentLink1Description: Manufacturer URL; ComponentLink1URL: http://www.we-online.com; ComponentLink2Description: Datasheet; ComponentLink2URL: http://www.we-online.de/katalog/media/pdf/744790282.pdf
footprint SMD-0805 (Chip Inductor, 2-Leads, Body 2.0x1.2x1.1 mm)
pins: 1, 2

## 744790515
designator L?
SMD-Multilayer Inductor WE-MI, L = 1.50 µH; Inductance: 1.50 µH; DatasheetVersion: ver 4, Oct-2004; PackageVersion: 2005; PackageReference: SMD-0805; PackageDescription: Chip Inductor, 2-Leads, Body 2.0 x 1.2 mm; ComponentLink1Description: Manufacturer URL; ComponentLink1URL: http://www.we-online.com; ComponentLink2Description: Datasheet; ComponentLink2URL: http://www.we-online.de/katalog/media/pdf/744790515.pdf
footprint SMD-0805 (Chip Inductor, 2-Leads, Body 2.0x1.2x1.1 mm)
pins: 1, 2

## 744791220
designator L?
SMD-Multilayer Inductor WE-MI, L = 0.22 µH; Inductance: 0.22 µH; DatasheetVersion: ver 5, Oct-2004; PackageVersion: 2007; PackageReference: SMD-1210; PackageDescription: Chip Inductor, 2-Leads, Body 3.2 x 2.5 mm; ComponentLink1Description: Manufacturer URL; ComponentLink1URL: http://www.we-online.com; ComponentLink2Description: Datasheet; ComponentLink2URL: http://www.we-online.de/katalog/media/pdf/744791220.pdf
footprint SMD-1210 (Chip Inductor, 2-Leads, Body 3.2x2.5x1.5 mm)
pins: 1, 2

## 744791282
designator L?
SMD-Multilayer Inductor WE-MI, L = 8.20 µH; Inductance: 8.20 µH; DatasheetVersion: ver 1, May-2007; PackageVersion: 2007; PackageReference: SMD-1210; PackageDescription: Chip Inductor, 2-Leads, Body 3.2 x 2.5 mm; ComponentLink1Description: Manufacturer URL; ComponentLink1URL: http://www.we-online.com; ComponentLink2Description: Datasheet; ComponentLink2URL: http://www.we-online.de/katalog/media/pdf/744791282.pdf
footprint SMD-1210 (Chip Inductor, 2-Leads, Body 3.2x2.5x1.5 mm)
pins: 1, 2

## 744796215
designator L?
SMD-Multilayer Inductor WE-MI, L = 1.50 µH; Inductance: 1.50 µH; DatasheetVersion: ver 1, Aug-2007; PackageVersion: 2009; PackageReference: SMD-0603; PackageDescription: Chip Inductor, 2-Leads, Body 1.6 x 0.8 mm; ComponentLink1Description: Manufacturer URL; ComponentLink1URL: http://www.we-online.com; ComponentLink2Description: Datasheet; ComponentLink2URL: http://www.we-online.de/katalog/media/pdf/744796215.pdf
footprint SMD-0603 (Chip Inductor, 2-Leads, Body 1.6x0.8x0.95 mm)
pins: 1, 2

## 744796233
designator L?
SMD-Multilayer Inductor WE-MI, L = 0.33 µH; Inductance: 0.33 µH; DatasheetVersion: ver 5, Oct-2004; PackageVersion: 2009; PackageReference: SMD-0603; PackageDescription: Chip Inductor, 2-Leads, Body 1.6 x 0.8 mm; ComponentLink1Description: Manufacturer URL; ComponentLink1URL: http://www.we-online.com; ComponentLink2Description: Datasheet; ComponentLink2URL: http://www.we-online.de/katalog/media/pdf/744796233.pdf
footprint SMD-0603 (Chip Inductor, 2-Leads, Body 1.6x0.8x0.95 mm)
pins: 1, 2